# EAGLE library part LTC4415 (library linear-technology)
Dual 4A Ideal Diodes with Adjustable Current Limit The LTC4415 contains two monolithic PowerPath ideal diodes, each capable of supplying up to 4A with typical forward conduction resistance of 50mΩ. The diode voltage drops are regulated to 15mV during forward conduction at low currents, extending the power supply operating range and ensuring no oscillations during supply switchover. Less than 1µA of reverse current flows from OUT to IN making this device well suited for power supply ORing applications. The two ideal diodes are independently enabled and prioritized using inputs EN1 and EN2. The output current limits can be adjusted independently from 0.5A to 4A using resistors on the CLIM pins. Furthermore, the ideal diode currents can be monitored via CLIM pin voltages. Open-drain status pins indicate when the ideal diodes are forward conducting. When the die temperature approaches thermal shutdown, or if the output load exceeds the current limit threshold, the corresponding warning pins are pulled low.
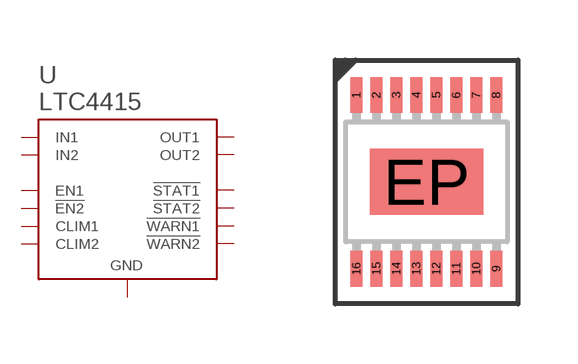
[diagram p29: symbol with the pads of MSOP16; footprint MSOP16]

Designator prefix U

## LTC4415  [MSOP16]
1  IN1
2  IN1
3  EN1
4  CLIM1
5  CLIM2
6  !EN2
7  IN2
8  IN2
9  OUT2
10  OUT2
11  !STAT2
12  !WARN2
13  !WARN1
14  !STAT1
15  OUT1
16  OUT1
EP  GND

## Footprint MSOP16 (pad centres in mm)
smd 0.3 x 0.89: 1 -1.75,2.17; 2 -1.25,2.17; 3 -0.75,2.17; 4 -0.25,2.17; 5 0.25,2.17; 6 0.75,2.17; 7 1.25,2.17; 8 1.75,2.17; 9 1.75,-2.17; 10 1.25,-2.17; 11 0.75,-2.17; 12 0.25,-2.17; 13 -0.25,-2.17; 14 -0.75,-2.17; 15 -1.25,-2.17; 16 -1.75,-2.17
smd 2.845 x 1.651: EP 0,0